# EAGLE library part TPS63036 (library texas)
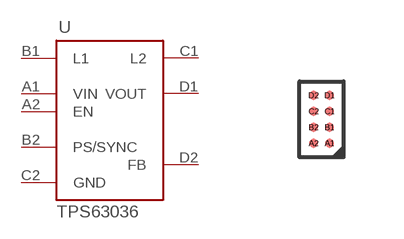
[diagram p119: symbol with the pads of DSBGA8; footprint DSBGA8]

Designator prefix -

## TPS63036  [DSBGA8]
A1  VIN
A2  EN
B1  L1
B2  PS/SYNC
C1  L2
C2  GND
D1  VOUT
D2  FB

## Footprint DSBGA8 (pad centres in mm)
smd 0.225 x 0.225: A1 0.2,-0.6; A2 -0.2,-0.6; B1 0.2,-0.2; B2 -0.2,-0.2; C1 0.2,0.2; C2 -0.2,0.2; D1 0.2,0.6; D2 -0.2,0.6